# Altium schematic symbol library МЦТР.00010572.00.001.SCHLIB: 38 symbols
Pins are listed as number, name and electrical type; pins without a type are passive.

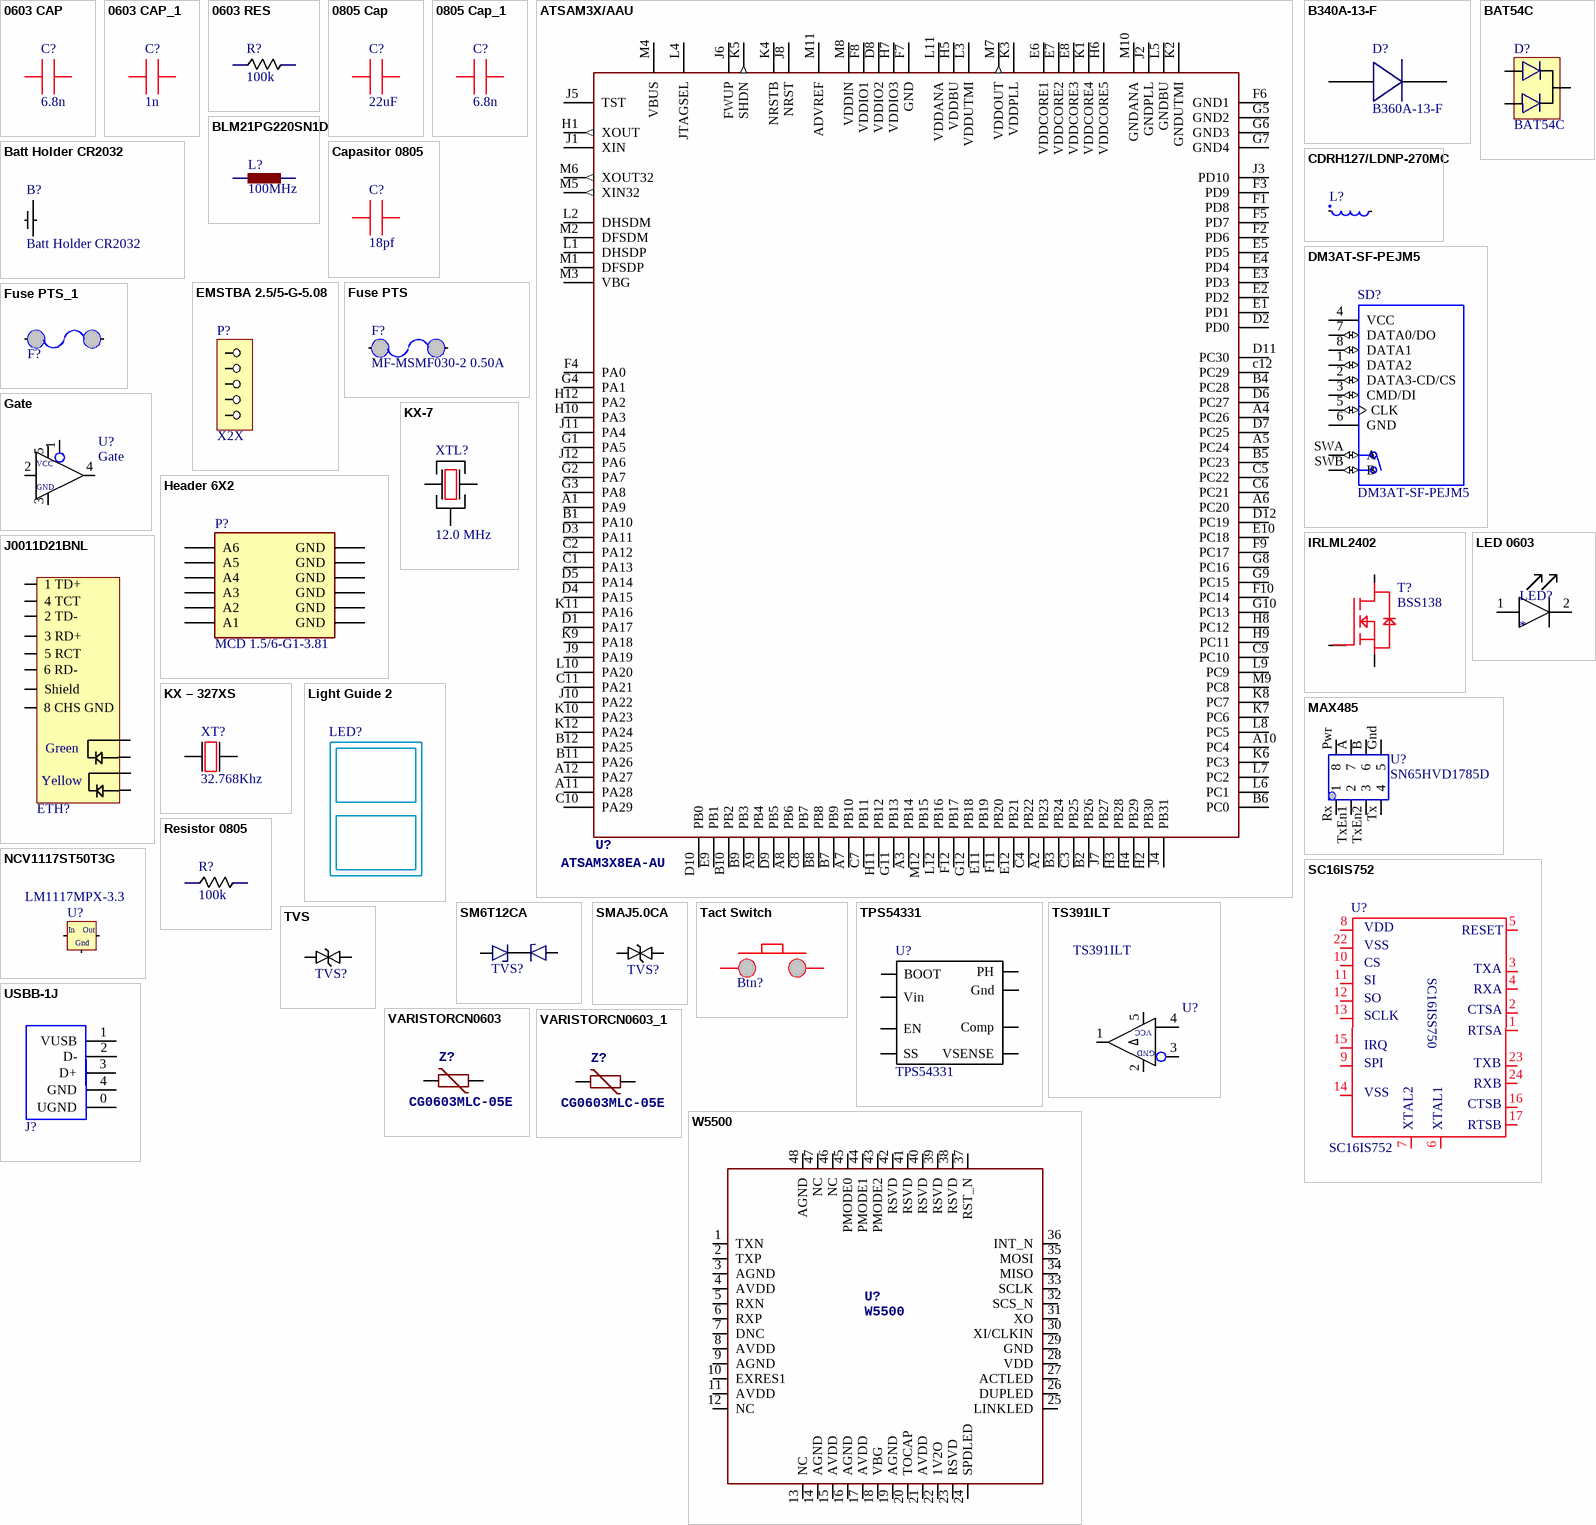
[diagram p0: symbols 0603 CAP to W5500]

## 0603 CAP
designator C?, comment 6.8n
CC0603KRX7R9BB682
footprint 0603
pins: 1, 2

## 0603 CAP_1
designator C?, comment 1n
CC1206KKX7RDBB102
footprint 1206
pins: 1, 2

## 0603 RES
designator R?, comment 100k
RC0603FR-07100KL
footprint 0603
pins: 1, 2

## 0805 Cap
designator C?, comment 22uF
CC1210KKX5R7BB226
footprint 1206
pins: 1, 2

## 0805 Cap_1
designator C?, comment 6.8n
GRM188R71E104KA01D
footprint 0603
pins: 1, 2

## ATSAM3X/AAU
designator U?, comment ATSAM3X8EA-AU
footprint LFBGA 144
pins: A1 PA9, A2 PB23, A3 PB14, A4 PC26, A5 PC24, A6 PC20, A7 PB10, A8 PB6, A9 PB4, A10 PC4, A11 PA28, A12 PA27, B1 PA10, B2 PB26, B3 PB24, B4 PC28, B5 PC23, B6 PC0, B7 PB9, B8 PB8, B9 PB3, B10 PB2, B11 PA26, B12 PA25, C1 PA13, C2 PA12, C3 PB25, C4 PB22, C5 PC22, C6 PC21, C7 PB11, C8 PB7, C9 PC10, C10 PA29, C11 PA21, c12 PC29, D1 PA17, D2 PD0, D3 PA11, D4 PA15, D5 PA14, D6 PC27, D7 PC25, D8 VDDIO2 (power), D9 PB5, D10 PB0, D11 PC30, D12 PC19, E1 PD1, E2 PD2, E3 PD3, E4 PD4, E5 PD5, E6 VDDCORE1, E7 VDDCORE2, E8 VDDCORE3, E9 PB1, E10 PC18, E11 PB19, E12 PB21, F1 PD8, F2 PD6, F3 PD9, F4 PA0, F5 PD7, F6 GND1 (power), F7 GND (power), F8 VDDIO1 (power), F9 PC17, F10 PC14, F11 PB20, F12 PB17, G1 PA5, G2 PA7, G3 PA8, G4 PA1, G5 GND2 (power), G6 GND3 (power), G7 GND4 (power), G8 PC16, G9 PC15, G10 PC13, G11 PB13, G12 PB18, H1 XOUT (out), H2 PB30, H3 PB28, H4 PB29, H5 VDDBU (power), H6 VDDCORE5, H7 VDDIO3 (power), H8 PC12, H9 PC11, H10 PA3, H11 PB12, H12 PA2, J1 XIN, J2 GNDPLL (power), J3 PD10, J4 PB31, J5 TST, J6 FWUP, J7 PB27, J8 NRST, J9 PA19, J10 PA22, J11 PA4, J12 PA6, K1 VDDCORE4, K2 GNDUTMI (power), K3 VDDPLL, K4 NRSTB, K5 SHDN (out), K6 PC3, K7 PC6, K8 PC7, K9 PA18, K10 PA23, K11 PA16, K12 PA24, L1 DHSDP, L2 DHSDM, L3 VDDUTMI, L4 JTAGSEL, L5 GNDBU (power), L6 PC1, L7 PC2, L8 PC5, L9 PC9, L10 PA20, L11 VDDANA (power), L12 PB16, M1 DFSDP, M2 DFSDM, M3 VBG, M4 VBUS (power), M5 XIN32 (out), M6 XOUT32 (out), M7 VDDOUT (out), M8 VDDIN (power), M9 PC8, M10 GNDANA (power), M11 ADVREF (power), M12 PB15

## B340A-13-F
designator D?, comment B360A-13-F
footprint B340A-13-F
pins: 1, 2 1

## BAT54C
designator D?
footprint SOT23
pins: 1, 2, 3 2

## Batt Holder CR2032
designator B?
1734178-1
footprint Batt Holder CR2032
pins: 0 5, 1 6

## BLM21PG220SN1D
designator L?, comment 100MHz
BLM21PG220SN1D
footprint 0805
pins: 1, 2

## Capasitor 0805
designator C?, comment 18pf
GRM1885C1H180JA01D
footprint 0603
pins: 1, 2

## CDRH127/LDNP-270MC
designator L?, comment CDRH127/LDNP-220MC  (value not drawn)
footprint CDRH127/LDNP-270MC,
pins: 1, 2

## DM3AT-SF-PEJM5
designator SD?
footprint DM3AT-SF-PEJM5
pins: 1 DATA2 (io), 2 DATA3-CD/CS (io), 3 CMD/DI (io), 4 VCC (power), 5 CLK (io), 6 GND (power), 7 DATA0/DO (io), 8 DATA1 (io), SWA A (io), SWB B (io)

## EMSTBA 2.5/5-G-5.08
designator P?, comment X2X
EMSTBA 2.5/5-G-5.08
footprint PhClass5
pins: 1, 2, 3, 4 2, 5 3

## Fuse PTS
designator F?, comment MF-MSMF030-2 0.50A
footprint Fuse PTS
pins: 1, 2

## Fuse PTS_1
designator F?, comment Resettable FUSE  (value not drawn)
MF-USMF005-2
footprint 1210
pins: 1, 2

## Gate
designator U?
SN74LVC1G125DBVR
footprint SOT23 - 5 lead
pins: 1 7, 2 7, 3 7, 4 7, 5 7
text: VCC; GND

## Header 6X2
designator P?, comment MCD 1.5/6-G1-3.81
Header, 6-Pin, Dual row; LatestRevisionDate: 17-Jul-2002; LatestRevisionNote: Re-released for DXP Platform.; Publisher: Altium Limited
footprint mcd 1,5/6-G1-3.81
pins: 1 A6, 2 GND, 3 A5, 4 GND, 5 A4, 6 GND, 7 A3, 8 GND, 9 A2, 10 GND, 11 A1, 12 GND

## IRLML2402
designator T?, comment BSS138
IRLML2402
footprint SOT23
pins: 1, 2, 3

## J0011D21BNL
designator ETH?, comment ETH?  (value not drawn)
J0011D21BNL
footprint RJ45
pins: 1 1 TD+, 2 2 TD-, 3 3 RD+, 4 4 TCT, 5 5 RCT, 6 6 RD-, 8 8 CHS GND, 9 LDGr, 10 LDGr, 11 LDYE, 12 LDYE, SHIELD Shield
text: Green; Yellow

## KX – 327XS
designator XT?, comment 32.768Khz
KX – 327XS
footprint KX – 327
pins: 1 5, 2 5

## KX-7
designator XTL?, comment 12.0 MHz
Geyer KX-7 12.0 MHz
footprint KX-7 XTAL
pins: 1 5, 2, 3 5

## LED 0603
designator LED?
footprint 0603 - LED
pins: 1, 2

## Light Guide 2
designator LED?  (value not drawn)
KP-1608SYC
footprint LED SMD DayLight

## MAX485
designator U?, comment SN65HVD1785D
footprint MAX485 - duplicate (SOIC, 8-Leads, Body 4,90x3,90mm, Pitch 1,27mm, IPC Medium Density)
pins: A 7, B 6, Gnd 5, Pwr 8, Rx 1, Tx 4, TxEn1 2, TxEn2 3

## NCV1117ST50T3G
designator U?, comment LM1117MPX-3.3
footprint SOT223
pins: 1 GND, 2 OUT, 3 IN
text: In; Out; Gnd

## Resistor 0805
designator R?, comment 100k
RC0603FR-07100KL
footprint 0603
pins: 1, 2

## SC16IS752
designator U?
SC16IS752IPW
footprint TSSOP28
pins: 1, 2, 3, 4, 5, 6, 7, 8, 9, 10, 11, 12, 13, 14, 15, 16, 17, 22, 23, 24
text: VDD; RESET; VSS; CS; SC16ISS750; TXA; SI; RXA; SO; CTSA; SCLK; RTSA; IRQ; SPI; TXB; RXB; CTSB; XTAL2; XTAL1; RTSB

## SM6T12CA
designator TVS?, comment SMAJ5.0CA  (value not drawn)
footprint SM6T
pins: 1, 2

## SMAJ5.0CA
designator TVS?  (value not drawn)
SMAJ30CA
footprint DO-214AC
pins: 1, 2

## Tact Switch
designator Btn?  (value not drawn)
KLS7-TS6606-4.3-180
footprint Tact Switch
pins: 0, 1

## TPS54331
designator U?
footprint SOIC 8
pins: 1 BOOT, 2 Vin, 3 EN, 4 SS, 5 VSENSE, 6 Comp, 7 Gnd, 8 PH

## TS391ILT
designator U?
footprint SOT23 - 5 lead
pins: 1, 2, 3, 4, 5 7
text: VCC; GND

## TVS
designator TVS?, comment TVS Diode  (value not drawn)
SMAJ6.0CA
footprint DO-214AC
pins: 1, 2

## USBB-1J
designator J?  (value not drawn)
footprint USB B
pins: 0 UGND, 1 VUSB, 2 D-, 3 D+, 4 GND

## VARISTORCN0603
designator Z?, comment CG0603MLC-05E
<b>VARISTOR</b>
footprint 0603
pins: 1, 2

## VARISTORCN0603_1
designator Z?, comment CG0603MLC-05E
<b>VARISTOR</b>
footprint 0603
pins: 1, 2

## W5500
designator U?
footprint LQFP 48
pins: 1 TXN, 2 TXP, 3 AGND, 4 AVDD, 5 RXN, 6 RXP, 7 DNC, 8 AVDD, 9 AGND, 10 EXRES1, 11 AVDD, 12 NC, 13 NC, 14 AGND, 15 AVDD, 16 AGND, 17 AVDD, 18 VBG, 19 AGND, 20 TOCAP, 21 AVDD, 22 1V2O, 23 RSVD, 24 SPDLED, 25 LINKLED, 26 DUPLED, 27 ACTLED, 28 VDD, 29 GND, 30 XI/CLKIN, 31 XO, 32 SCS_N, 33 SCLK, 34 MISO, 35 MOSI, 36 INT_N, 37 RST_N, 38 RSVD, 39 RSVD, 40 RSVD, 41 RSVD, 42 RSVD, 43 PMODE2, 44 PMODE1, 45 PMODE0, 46 NC, 47 NC, 48 AGND